# Altium footprint library SMD-RCD 0607.PcbLib: 104 footprints (part 1 of 7)
Each footprint in its own frame and in the unit in brackets; x right, y up, seen from the top. Pads: shape width x height; smd on the part's side, far side on the other; paste and mask are expansions set on the pad; w line width, h text height; cw(c..) or ccw(c..) is an arc to the next point about the centre after c.
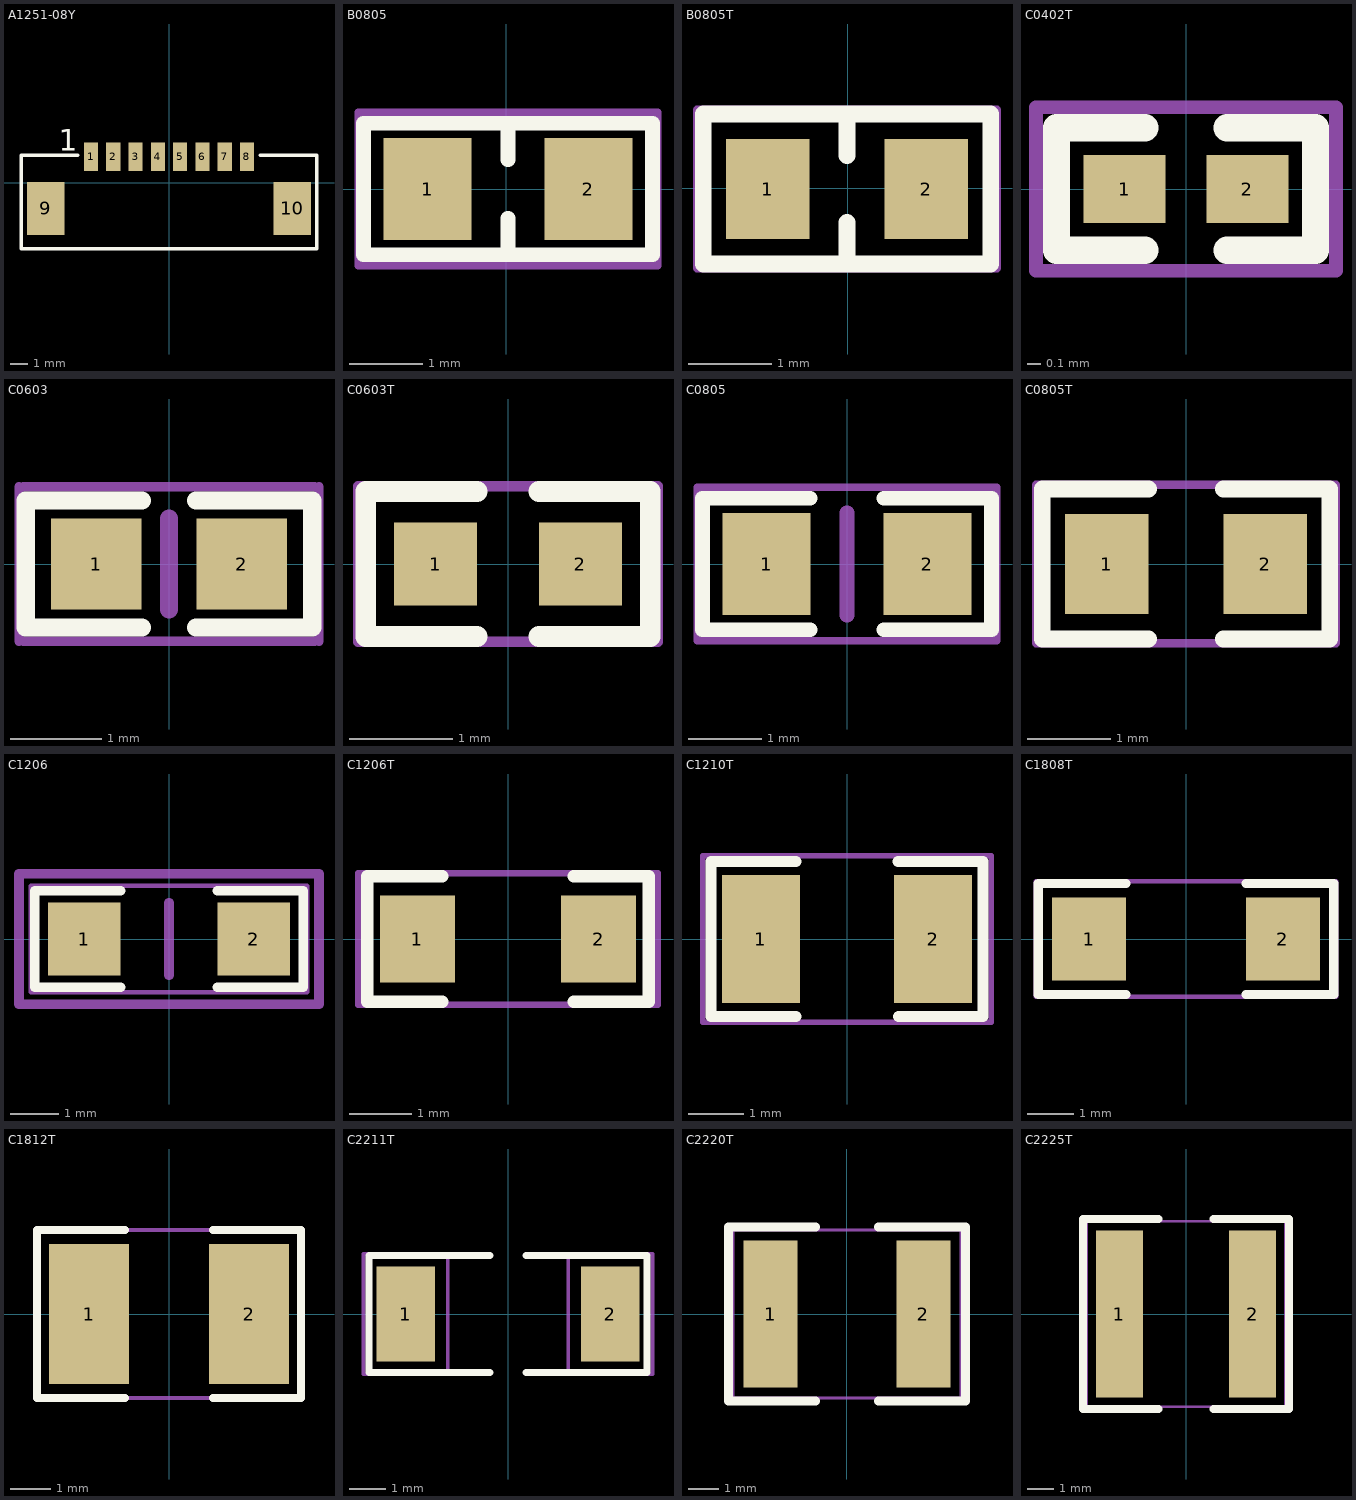
[diagram p0: the footprints below, top view; thin cyan lines are the x and y axes]

## A1251-08Y [mm]
pads (10):
  rect 0.8x1.6 smd: 1(-4.377,1.462) 2(-3.127,1.462) 3(-1.877,1.462) 4(-0.627,1.462) 5(0.623,1.462) 6(1.873,1.462) 7(3.123,1.462) 8(4.373,1.462)
  rect 2.1x3 smd: 9(-6.927,-1.438) 10(6.923,-1.438)
Top Overlay:
  lines w0.2: -5.138,1.562 -8.3,1.562 -8.3,-3.688 8.3,-3.688 8.3,1.562 5.138,1.562
  text "1" at -6.2,1.8 h1.2

## B0805 [mm]
pads (2):
  rect 1.2x1.4 smd: 1(-1.076,0) 2(1.124,0)
Top Overlay:
  lines w0.2: 0.024,-0.9 0.024,-0.4 ; 0.024,0.4 0.024,0.9 ; -1.951,-0.9 1.999,-0.9 1.999,0.9 -1.951,0.9 -1.951,-0.9
Mechanical 16:
  lines w0.1: -2.026,-1.05 -2.026,1.05 2.074,1.05 2.074,-1.05 -2.026,-1.05

## B0805T [mm]
pads (2):
  rect 1x1.2 smd: 1(-0.959,-0.006) 2(0.941,-0.006)
Top Overlay:
  lines w0.2: -0.009,-0.906 -0.009,-0.406 ; -0.009,0.394 -0.009,0.894 ; -1.734,-0.906 1.716,-0.906 1.716,0.894 -1.734,0.894 -1.734,-0.906
Mechanical 15:
  lines w0.1: -1.809,-0.956 -1.809,0.944 1.791,0.944 1.791,-0.956 -1.809,-0.956

## C0402T [mm]
height 0.55
pads (2):
  rect 0.6x0.5 smd: 1(-0.45,0) 2(0.45,0)
Top Overlay:
  lines w0.2: -0.3,-0.45 -0.95,-0.45 -0.95,0.45 -0.3,0.45 ; 0.3,-0.45 0.95,-0.45 0.95,0.45 0.3,0.45
Mechanical 15:
  lines w0.1: -1.1,-0.6 -1.1,0.6 1.1,0.6 1.1,-0.6 -1.1,-0.6

## C0603 [mm]
height 1
pads (2):
  rect 1x1 smd: 1(-0.8,0) 2(0.8,0)
Top Overlay:
  lines w0.2: -0.3,-0.7 -1.575,-0.7 -1.575,0.7 -0.3,0.7 ; 0.3,-0.7 1.575,-0.7 1.575,0.7 0.3,0.7
Mechanical 9:
  lines w0.2: 0,-0.5 0,0.5
Mechanical 16:
  lines w0.1: -1.65,-0.85 -1.65,0.85 ; -1.6,-0.85 1.6,-0.85 ; -1.6,0.85 1.6,0.85 ; 1.65,-0.85 1.65,0.85

## C0603T [mm]
height 1
pads (2):
  rect 0.8x0.8 smd: 1(-0.7,0) 2(0.7,0)
Top Overlay:
  lines w0.2: -0.3,-0.7 -1.375,-0.7 -1.375,0.7 -0.3,0.7 ; 0.3,-0.7 1.375,-0.7 1.375,0.7 0.3,0.7
Mechanical 15:
  lines w0.1: -1.45,-0.75 -1.45,0.75 1.45,0.75 1.45,-0.75 -1.45,-0.75

## C0805 [mm]
height 1.58
pads (2):
  rect 1.2x1.4 smd: 1(-1.1,0) 2(1.1,0)
Top Overlay:
  lines w0.2: -0.5,-0.9 -1.975,-0.9 -1.975,0.9 -0.5,0.9 ; 0.5,-0.9 1.975,-0.9 1.975,0.9 0.5,0.9
Mechanical 9:
  lines w0.2: 0,-0.7 0,0.7
Mechanical 16:
  lines w0.1: -2.05,-1.05 -2.05,1.05 2.05,1.05 2.05,-1.05 -2.05,-1.05

## C0805T [mm]
height 1.58
pads (2):
  rect 1x1.2 smd: 1(-0.95,0) 2(0.95,0)
Top Overlay:
  lines w0.2: -0.45,-0.9 -1.725,-0.9 -1.725,0.9 -0.45,0.9 ; 0.45,-0.9 1.725,-0.9 1.725,0.9 0.45,0.9
Mechanical 15:
  lines w0.1: -1.8,-0.95 1.8,-0.95 1.8,0.95 -1.8,0.95 -1.8,-0.95

## C1206 [mm]
height 1.6
pads (2):
  rect 1.5x1.5 smd: 1(-1.75,0) 2(1.75,0)
Top Overlay:
  lines w0.2: -1,-1 -2.775,-1 -2.775,1 -1,1 ; 1,-1 2.775,-1 2.775,1 1,1
Mechanical 8:
  lines w0.2: -3.1,-1.35 -3.1,1.35 3.1,1.35 3.1,-1.35 -3.1,-1.35
Mechanical 9:
  lines w0.2: 0,-0.75 0,0.75
Mechanical 16:
  lines w0.1: -2.85,-1.1 -2.85,1.1 2.85,1.1 2.85,-1.1 -2.85,-1.1

## C1206T [mm]
height 1.6
pads (2):
  rect 1.2x1.4 smd: 1(-1.45,0) 2(1.45,0)
Top Overlay:
  lines w0.2: -1.051,-1 -2.25,-1 -2.25,1 -1.051,1 ; 1.051,-1 2.25,-1 2.25,1 1.051,1
Mechanical 15:
  lines w0.1: -2.4,-1.05 2.4,-1.05 2.4,1.05 -2.4,1.05 -2.4,-1.05

## C1210T [mm]
height 2.03
pads (2):
  rect 1.4x2.3 smd: 1(-1.55,0) 2(1.55,0)
Top Overlay:
  lines w0.2: -0.915,-1.393 -2.45,-1.393 -2.45,1.393 -0.915,1.393 ; 0.915,1.393 2.45,1.393 2.45,-1.393 0.925,-1.393
Mechanical 15:
  lines w0.1: -2.6,-1.5 2.6,-1.5 2.6,1.5 -2.6,1.5 -2.6,-1.5

## C1808T [mm]
height 2.03
pads (2):
  rect 1.6x1.8 smd: 1(-2.1,0) 2(2.1,0)
Top Overlay:
  lines w0.2: -1.3,-1.2 -3.2,-1.2 -3.2,1.2 -1.3,1.2 ; 1.3,-1.2 3.2,-1.2 3.2,1.2 1.3,1.2
Mechanical 15:
  lines w0.1: -3.25,-1.25 -3.25,1.25 3.25,1.25 3.25,-1.25 -3.25,-1.25

## C1812T [mm]
height 2.16
pads (2):
  rect 2x3.5 smd: 1(-2,0) 2(2,0)
Top Overlay:
  lines w0.2: -1.1,-2.1 -3.3,-2.1 -3.3,2.1 -1.1,2.1 ; 1.1,-2.1 3.3,-2.1 3.3,2.1 1.1,2.1
Mechanical 15:
  lines w0.1: -3.35,-2.1 3.35,-2.1 3.35,2.1 -3.35,2.1 -3.35,-2.1

## C2211T [mm] "1105079C27"
height 1.5
pads (2):
  rect 1.6x2.6 smd: 1(-2.8,0) 2(2.8,0)
Top Overlay:
  lines w0.2: -0.5,-1.6 -3.8,-1.6 -3.8,1.6 -0.5,1.6 ; 0.5,-1.6 3.8,-1.6 3.8,1.6 0.5,1.6
Mechanical 15:
  lines w0.1: -3.95,-1.65 -1.65,-1.65 -1.65,1.65 -3.95,1.65 -3.95,-1.65 ; 1.65,-1.65 1.65,1.65 3.95,1.65 3.95,-1.65 1.65,-1.65

## C2220T [mm]
height 2.8
pads (2):
  rect 1.8x4.9 smd: 1(-2.55,0) 2(2.55,0)
Top Overlay:
  lines w0.305: -1.05,-2.9 -3.95,-2.9 -3.95,2.9 -1.05,2.9 ; 1.05,-2.9 3.95,-2.9 3.95,2.9 1.05,2.9
Mechanical 15:
  lines w0.1: -3.8,-2.8 3.8,-2.8 3.8,2.8 -3.8,2.8 -3.8,-2.8

## C2225T [mm]
height 2.8
pads (2):
  rect 1.8x6.4 smd: 1(-2.55,0) 2(2.55,0)
Top Overlay:
  lines w0.305: -1.05,-3.65 -3.95,-3.65 -3.95,3.65 -1.05,3.65 ; 1.05,-3.65 3.95,-3.65 3.95,3.65 1.05,3.65
Mechanical 15:
  lines w0.1: -3.8,-3.55 -3.8,3.55 3.8,3.55 3.8,-3.55 -3.8,-3.55